# Altium footprint library PDIP8_SOCKET.PcbLib: 1 footprints
Each footprint in its own frame and in the unit in brackets; x right, y up, seen from the top. Pads: shape width x height; smd on the part's side, far side on the other; paste and mask are expansions set on the pad; w line width, h text height; cw(c..) or ccw(c..) is an arc to the next point about the centre after c.
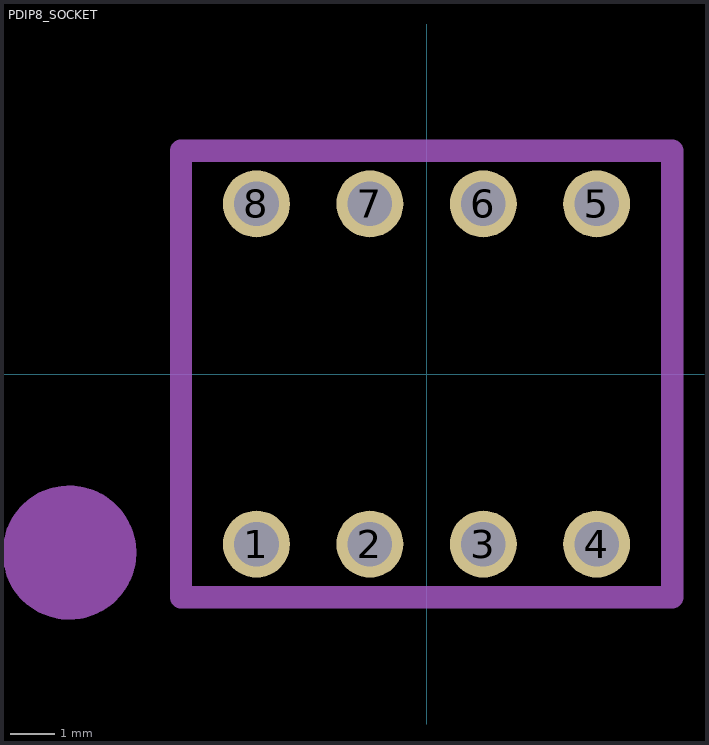
[diagram p0: the footprint, top view; thin cyan lines are the x and y axes]

## PDIP8_SOCKET [mm]
pads (8):
  round 1.5 hole 1 unplated: 1(-3.81,-3.81) 2(-1.27,-3.81) 3(1.27,-3.81) 4(3.81,-3.81) 5(3.81,3.81) 6(1.27,3.81) 7(-1.27,3.81) 8(-3.81,3.81)
Mechanical 1:
  circle w1.5: c-8,-4 r0.75
  lines w0.5: -5.5,-5 5.5,-5 5.5,5 -5.5,5 -5.5,-5
3D body "Gauge Pressure Sensor Asm.STEP": height 26.61, standoff -4.88, extent -5.334,-7 5.334,7.224